# EAGLE library part TST-113-03-T-D (library SamacSys_Parts)
26 Position, Shrouded PCB Headers, 0.100" pitch Source: Datasheet <http://suddendocs.samtec.com/prints/tst-1xx-xx-x-x-xx-xx-mkt.pdf>
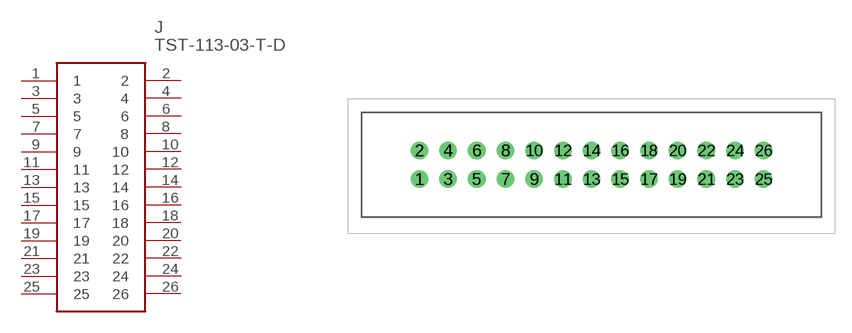
[diagram p256: symbol with the pads of TST-113-XX-Y; footprint TST-113-XX-Y]

Designator prefix J

## TST-113-03-T-D (DESCRIPTION: 26 Position, Shrouded PCB Headers, 0.100&quot; pitch; HEIGHT: mm; MANUFACTURER_NAME: SAMTEC; MANUFACTURER_PART_NUMBER: TST-113-03-T-D)  [TST-113-XX-Y]
1  1
2  2
3  3
4  4
5  5
6  6
7  7
8  8
9  9
10  10
11  11
12  12
13  13
14  14
15  15
16  16
17  17
18  18
19  19
20  20
21  21
22  22
23  23
24  24
25  25
26  26

## Footprint TST-113-XX-Y (pad centres in mm)
TST-113-XX-Y-D
drill 1.02 pad 1.55: 1 0,0; 2 0,2.54; 3 2.54,0; 4 2.54,2.54; 5 5.08,0; 6 5.08,2.54; 7 7.62,0; 8 7.62,2.54; 9 10.16,0; 10 10.16,2.54; 11 12.7,0; 12 12.7,2.54; 13 15.24,0; 14 15.24,2.54; 15 17.78,0; 16 17.78,2.54; 17 20.32,0; 18 20.32,2.54; 19 22.86,0; 20 22.86,2.54; 21 25.4,0; 22 25.4,2.54; 23 27.94,0; 24 27.94,2.54; 25 30.48,0; 26 30.48,2.54